# EAGLE library part 5025841060 (library Headers)
CONN RCPT 10POS 0.059 TIN SMD Manufacturer's datasheet <https://www.molex.com/pdm_docs/sd/5025841060_sd.pdf>
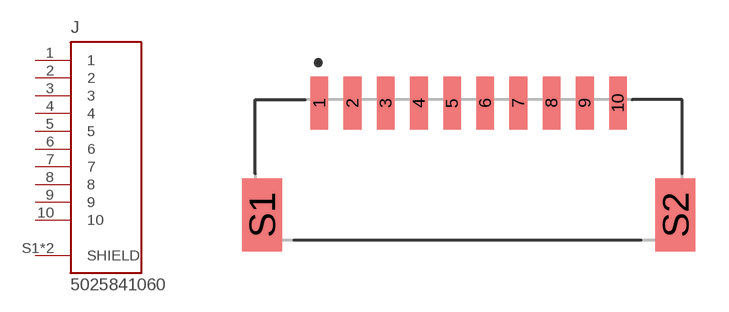
[diagram p48: symbol with the pads of 5025841060; footprint 5025841060]

Designator prefix J

## 5025841060 (CREATED_BY: PCBLayout.com; DIGIKEY_PN: WM10617TR-ND; MANUFACTURER: Molex; MPN: 5025841060)  [5025841060]
1  1  pas
2  2  pas
3  3  pas
4  4  pas
5  5  pas
6  6  pas
7  7  pas
8  8  pas
9  9  pas
10  10  pas
S1  SHIELD  pwr
S2  SHIELD  pwr

## Footprint 5025841060 (pad centres in mm)
smd 0.8 x 2.4: 1 -6.75,2.525; 2 -5.25,2.525; 3 -3.75,2.525; 4 -2.25,2.525; 5 -0.75,2.525; 6 0.75,2.525; 7 2.25,2.525; 8 3.75,2.525; 9 5.25,2.525; 10 6.75,2.525
smd 1.8 x 3.3: S1 -9.35,-2.525; S2 9.35,-2.525